# EAGLE library part 1734530-1 (library volks73-TEConnectivity)
15-Pin High Density Female D-Sub Connector Documentation Drawing <http://www.te.com/commerce/DocumentDelivery/DDEController?Action=srchrtrv&DocNm=1734530&DocType=Customer+Drawing&DocLang=English>
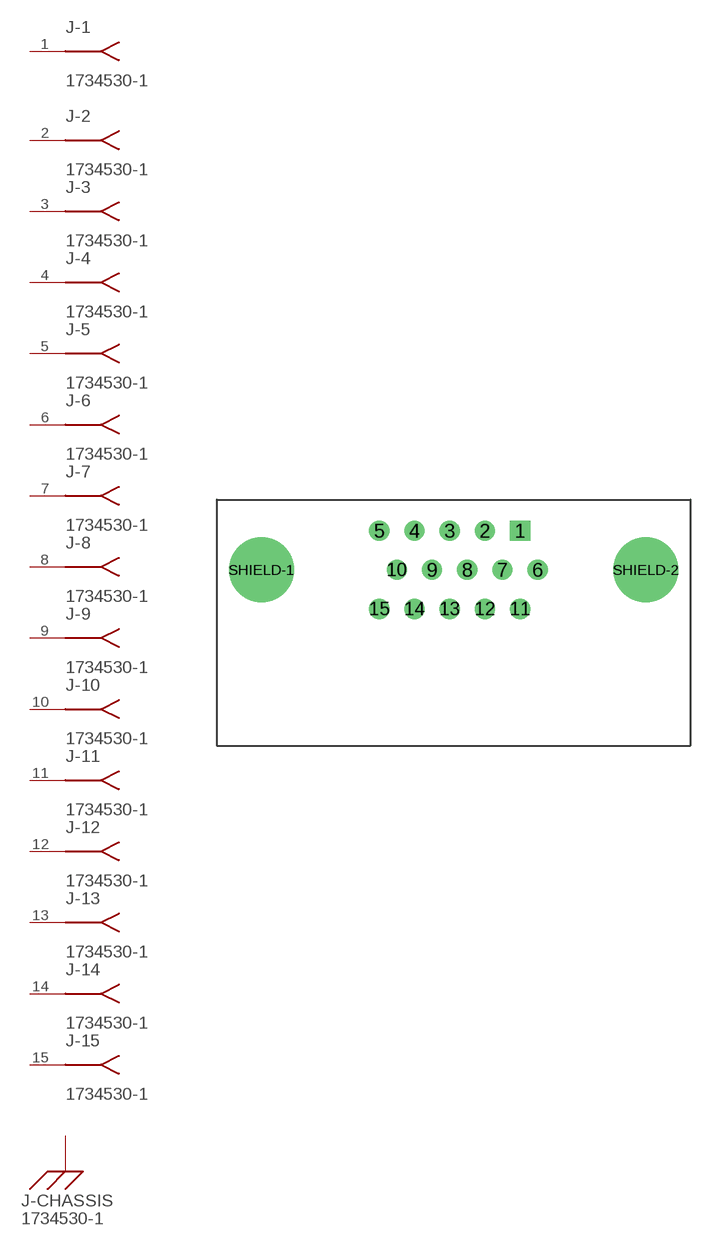
[diagram p0: symbol with the pads of HD15_FEMALE_RIGHT-ANGLE; footprint HD15_FEMALE_RIGHT-ANGLE]

Designator prefix J; gates -1=FEMALE_CONNECTOR -2=FEMALE_CONNECTOR -3=FEMALE_CONNECTOR -4=FEMALE_CONNECTOR -5=FEMALE_CONNECTOR -6=FEMALE_CONNECTOR -7=FEMALE_CONNECTOR -8=FEMALE_CONNECTOR -9=FEMALE_CONNECTOR -10=FEMALE_CONNECTOR -11=FEMALE_CONNECTOR -12=FEMALE_CONNECTOR -13=FEMALE_CONNECTOR -14=FEMALE_CONNECTOR -15=FEMALE_CONNECTOR -CHASSIS=CHASSIS

## 1734530-1 (COLOR: Black; CONNECTOR_STYLE: D-Sub, High Density; CONNECTOR_TYPE: Receptacle, Female Sockets; CONTACT_FINISH: Gold; CONTACT_FINISH_THICKNESS: Flash; CONTACT_TYPE: Signal; CURRENT_RATING: 2A; DESCRIPTION: CONN DSUB HD RCPT 15POS R/A SLDR; DOCUMENTATION_LINK: <a href="http://www.te.com/commerce/DocumentDelivery/DDEController?Action=srchrtrv&DocNm=1734530&DocType=Customer+Drawing&DocLang=English">Datasheet</a>; DOCUMENTATION_URL: http://www.te.com/commerce/DocumentDelivery/DDEController?Action=srchrtrv&DocNm=1734530&DocType=Customer+Drawing&DocLang=English; FEATURES: Board Lock; FLANGE_FEATURE: Housing/Shell (4-40); HOUSING_MATERIAL: Polyamide (PA9T), Nylon 9T; MANUFACTURER: TE Connectivity; MOUNTINT_TYPE: Through Hole, Right Angle; NUMBER_POSITIONS: 15; NUMBER_ROWS: 3; OPERATING_TEMPERATURE: -55 ~ 105C; PART_NUMBER: 1-1734530-1; SERIES: AMPLIMITE HD-22, AMP; SHELL_MATERIAL: Steel, Nickel Plated; SHELL_SIZE: 1 (DE, E) High Density; SUPPLIER_ITEM_LINK: <a href="http://www.digikey.com/product-search/en?KeyWords=A35116-ND&WT.z_header=search_go">Details</a>; SUPPLIER_ITEM_NUMBER: A35116-ND; SUPPLIER_ITEM_URL: http://www.digikey.com/product-search/en?KeyWords=A35116-ND&WT.z_header=search_go; SUPPLIER_LINK: <a href="http://www.digikey.com">Home Page</a>; SUPPLIER_NAME: Digi-Key; SUPPLIER_URL: http://www.digikey.com; TERMINATION: Solder; VOLTAGE_RATING: 125V)  [HD15_FEMALE_RIGHT-ANGLE]
1  -1:P$1
2  -2:P$1
3  -3:P$1
4  -4:P$1
5  -5:P$1
6  -6:P$1
7  -7:P$1
8  -8:P$1
9  -9:P$1
10  -10:P$1
11  -11:P$1
12  -12:P$1
13  -13:P$1
14  -14:P$1
15  -15:P$1
SHIELD-1  -CHASSIS:CHASSIS
SHIELD-2  -CHASSIS:CHASSIS

## Footprint HD15_FEMALE_RIGHT-ANGLE (pad centres in mm)
15-Pin High Density D-sub Miniature (DB15) Board Mount Connector
drill 0.8 square: 1 4.32,2.54
drill 0.8: 2 2.03,2.54; 3 -0.26,2.54; 4 -2.55,2.54; 5 -4.84,2.54; 6 5.46,0; 7 3.17,0; 8 0.88,0; 9 -1.41,0; 10 -3.7,0; 11 4.32,-2.54; 12 2.03,-2.54; 13 -0.26,-2.54; 14 -2.55,-2.54; 15 -4.84,-2.54
drill 3.2: SHIELD-1 -12.5,0; SHIELD-2 12.5,0